# Altium integrated library Linear Technology Power Management LED Driver ICs.IntLib: 490 symbols (part 29 of 48)
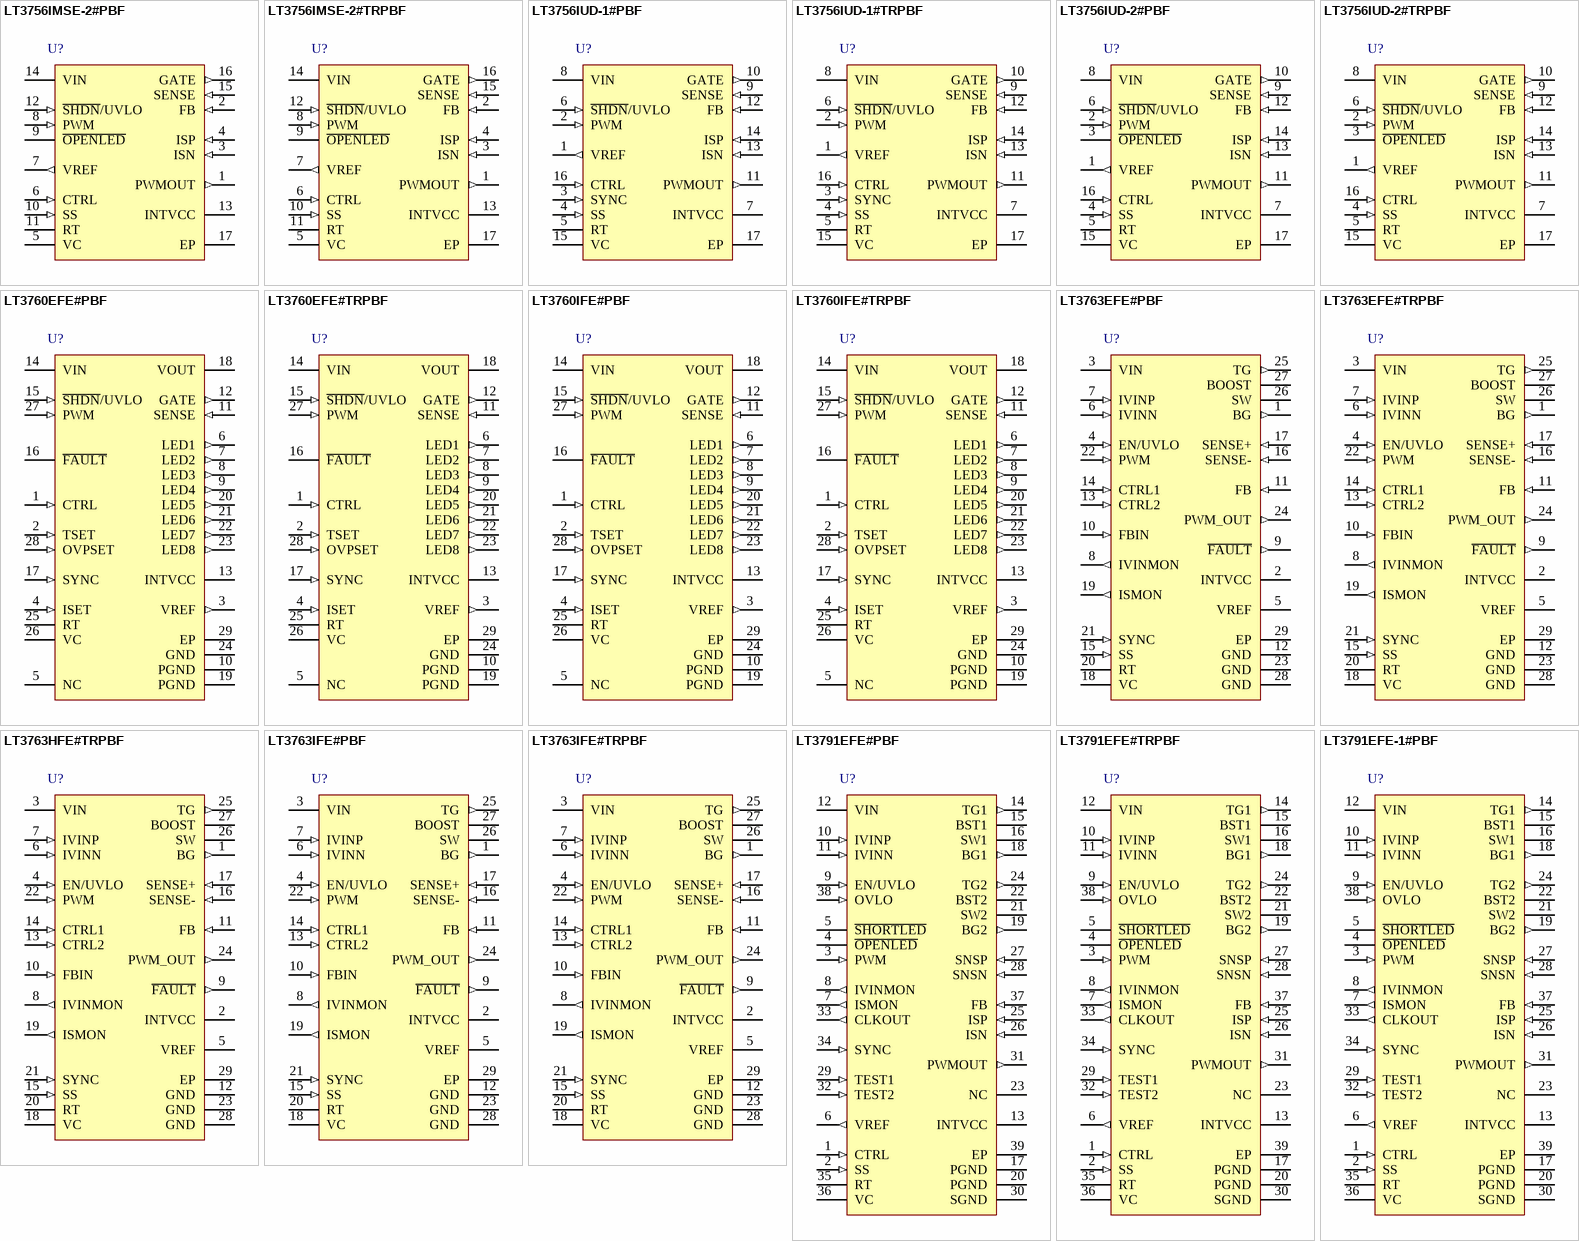
[diagram p48: symbols LT3756IMSE-2#PBF to LT3791EFE-1#PBF]

## LT3760EFE#PBF
designator U?
8-Channel x 100 mA LED Driver, 6 to 40 V Vin, 45 V Vout MAX, 28-pin SOP (FE-28-EPV-EB), -40 to 125 degC, Pb-Free; Manufacturer: Linear Technology; PartNumber: LT3760EFE#PBF; Topology: Boost, LED Driver; Vin Min(V): 6; DatasheetVersion: Rev. C; PackageVersion: Rev. J, 11/2012; PackageReference: FE-28; PackageDescription: 28-Pin Plastic TSSOP, Body 9.7 x 4.4 mm, Pitch 0.65 mm; Supplier 1: Digi-Key; Supplier Part Number 1: LT3760EFE#PBF-ND; Supplier 2: Farnell; Supplier Part Number 2: 1792369; Supplier 3: Newark; Supplier Part Number 3: 63R6863; RoHS: TRUE; Mounting Technology: Surface Mount; ComponentLink1Description: Manufacturer URL; ComponentLink1URL: http://www.linear.com/; ComponentLink2Description: Datasheet; ComponentLink2URL: http://cds.linear.com/docs/en/datasheet/3760fc.pdf; ComponentLink3Description: Package Specification; ComponentLink3URL: http://cds.linear.com/docs/en/packaging/05081663__J_FE28(EB).pdf
footprint LT-FE-28-EPV-EB_N (SOP, 28-Leads, Body 9.8x4.5mm, Pitch 0.65mm, Thermal Pad 4.75x2.74mm, IPC Medium Density)
footprint LT-FE-28-EPV-EB_L (SOP, 28-Leads, Body 9.8x4.5mm, Pitch 0.65mm, Thermal Pad 4.75x2.74mm, IPC High Density)
footprint LT-FE-28-EPV-EB_M (SOP, 28-Leads, Body 9.8x4.5mm, Pitch 0.65mm, Thermal Pad 4.75x2.74mm, IPC Low Density)
pins: 1 CTRL (in) "CTRL pin voltage below 1 V controls LED current. CTRL voltage can be set by a resistor divider from VIN , VREF or an external voltage source. LED current derating versus temperature is achievable if the voltage programmed at (See Datasheet)", 2 TSET (in) "Programs LT3760 junction temperature breakpoint past which LED current will begin to derate. Program using a resistor divider from VREF to GND.", 3 VREF (out) "1.485 V Reference Output Pin. This pin can supply up to 150 uA. Can be used to program CTRL, TSET and OVP SET pin voltages using resistor dividers to GND.", 4 ISET (in) "Resistor to GND Programs LED pin current.", 5 NC "No Connect. Okay to leave open or to connect to GND.", 6 LED1 (out) "LED Driver Output.", 7 LED2 (out) "LED Driver Output.", 8 LED3 (out) "LED Driver Output.", 9 LED4 (out) "LED Driver Output.", 10 PGND (power) "Power grounds for the IC and the converter.", 11 SENSE (in) "The Current Sense Input for the Control Loop. Connect this pin to the sense resistor in the source of the external power MOSFET.", 12 GATE (out) "Drives the gate of an N-channel MOSFET from 0 V to INTVCC .", 13 INTVCC (power) "A 7 V LDO supply generated from VIN and used to power the GATE driver and some control circuitry. Must be bypassed with a 4.7 uF capacitor to PGND.", 14 VIN (power) "Input Supply Pin. Must be locally bypassed with a 1 uF capacitor to PGND.", 15 ~{SHDN}/UVLO (in) "The S\H\D\N\/UVLO pin has an accurate 1.476 V threshold and can be used to program an under voltage lockout (UVLO) threshold for system input supply using a resistor divider from supply to GND.", 16 ~{FAULT} (oc) "Active low if any or all LED strings have an open fault. If fault(s) removed, F\A\U\L\T\ flag returns high. Fault status is only updated during PWM high state and latched during PWM low.", 17 SYNC (in) "Allows synchronization of boost converter switching frequency to an external clock. RT resistor should be programmed for f OSC 20% below SYNC frequency. If unused, connect to GND.", 18 VOUT (power) "Boosted Output Voltage of the Converter. Connect a capacitor from this pin to PGND. Connect the anode of each LED (string) to VOUT .", 19 PGND (power) "Power grounds for the IC and the converter.", 20 LED5 (out) "LED Driver Output.", 21 LED6 (out) "LED Driver Output.", 22 LED7 (out) "LED Driver Output.", 23 LED8 (out) "LED Driver Output.", 24 GND (power) "Signal Ground.", 25 RT "A resistor to GND programs switching frequency fOSC between 0.1 MHz and 1 MHz.", 26 VC "Output of Both Transconductance Error Amplifiers for the Converter Regulation Loop. The most commonly used gm error amplifier (LED) regulates VOUT to ensure no LED pin falls below 1V. The other gm error amplifier (OVP) is (See Datasheet)", 27 PWM (in) "Input Pin for PWM Dimming Control. Above 1.4 V allows converter switching and below 0.7 V disables switching. The PWM signal can be driven from 0 V to 6 V. If unused, connect to VREF.", 28 OVPSET (in) "Programs maximum allowed VOUT regulation level if all LEDs are open circuit. Program using a resistor divider from VREF to GND.", 29 EP (power) "Power grounds for the IC and the converter.It should be soldered to a continuous copper ground plane under the device to reduce die temperature and increase the power capability of the LT3760."

## LT3760EFE#TRPBF
designator U?
8-Channel x 100 mA LED Driver, 6 to 40 V Vin, 45 V Vout MAX, 28-pin SOP (FE-28-EPV-EB), -40 to 125 degC, Pb-Free, Tape and Reel; Manufacturer: Linear Technology; PartNumber: LT3760EFE#TRPBF; Topology: Boost, LED Driver; Vin Min(V): 6; DatasheetVersion: Rev. C; PackageVersion: Rev. J, 11/2012; PackageReference: FE-28; PackageDescription: 28-Pin Plastic TSSOP, Body 9.7 x 4.4 mm, Pitch 0.65 mm; Supplier 1: Digi-Key; Supplier Part Number 1: LT3760EFE#TRPBF-ND; Packing: Tape and Reel; RoHS: TRUE; Mounting Technology: Surface Mount; ComponentLink1Description: Manufacturer URL; ComponentLink1URL: http://www.linear.com/; ComponentLink2Description: Datasheet; ComponentLink2URL: http://cds.linear.com/docs/en/datasheet/3760fc.pdf; ComponentLink3Description: Package Specification; ComponentLink3URL: http://cds.linear.com/docs/en/packaging/05081663__J_FE28(EB).pdf
footprint LT-FE-28-EPV-EB_N (SOP, 28-Leads, Body 9.8x4.5mm, Pitch 0.65mm, Thermal Pad 4.75x2.74mm, IPC Medium Density)
footprint LT-FE-28-EPV-EB_L (SOP, 28-Leads, Body 9.8x4.5mm, Pitch 0.65mm, Thermal Pad 4.75x2.74mm, IPC High Density)
footprint LT-FE-28-EPV-EB_M (SOP, 28-Leads, Body 9.8x4.5mm, Pitch 0.65mm, Thermal Pad 4.75x2.74mm, IPC Low Density)
pins: 1 CTRL (in) "CTRL pin voltage below 1 V controls LED current. CTRL voltage can be set by a resistor divider from VIN , VREF or an external voltage source. LED current derating versus temperature is achievable if the voltage programmed at (See Datasheet)", 2 TSET (in) "Programs LT3760 junction temperature breakpoint past which LED current will begin to derate. Program using a resistor divider from VREF to GND.", 3 VREF (out) "1.485 V Reference Output Pin. This pin can supply up to 150 uA. Can be used to program CTRL, TSET and OVP SET pin voltages using resistor dividers to GND.", 4 ISET (in) "Resistor to GND Programs LED pin current.", 5 NC "No Connect. Okay to leave open or to connect to GND.", 6 LED1 (out) "LED Driver Output.", 7 LED2 (out) "LED Driver Output.", 8 LED3 (out) "LED Driver Output.", 9 LED4 (out) "LED Driver Output.", 10 PGND (power) "Power grounds for the IC and the converter.", 11 SENSE (in) "The Current Sense Input for the Control Loop. Connect this pin to the sense resistor in the source of the external power MOSFET.", 12 GATE (out) "Drives the gate of an N-channel MOSFET from 0 V to INTVCC .", 13 INTVCC (power) "A 7 V LDO supply generated from VIN and used to power the GATE driver and some control circuitry. Must be bypassed with a 4.7 uF capacitor to PGND.", 14 VIN (power) "Input Supply Pin. Must be locally bypassed with a 1 uF capacitor to PGND.", 15 ~{SHDN}/UVLO (in) "The S\H\D\N\/UVLO pin has an accurate 1.476 V threshold and can be used to program an under voltage lockout (UVLO) threshold for system input supply using a resistor divider from supply to GND.", 16 ~{FAULT} (oc) "Active low if any or all LED strings have an open fault. If fault(s) removed, F\A\U\L\T\ flag returns high. Fault status is only updated during PWM high state and latched during PWM low.", 17 SYNC (in) "Allows synchronization of boost converter switching frequency to an external clock. RT resistor should be programmed for f OSC 20% below SYNC frequency. If unused, connect to GND.", 18 VOUT (power) "Boosted Output Voltage of the Converter. Connect a capacitor from this pin to PGND. Connect the anode of each LED (string) to VOUT .", 19 PGND (power) "Power grounds for the IC and the converter.", 20 LED5 (out) "LED Driver Output.", 21 LED6 (out) "LED Driver Output.", 22 LED7 (out) "LED Driver Output.", 23 LED8 (out) "LED Driver Output.", 24 GND (power) "Signal Ground.", 25 RT "A resistor to GND programs switching frequency fOSC between 0.1 MHz and 1 MHz.", 26 VC "Output of Both Transconductance Error Amplifiers for the Converter Regulation Loop. The most commonly used gm error amplifier (LED) regulates VOUT to ensure no LED pin falls below 1V. The other gm error amplifier (OVP) is (See Datasheet)", 27 PWM (in) "Input Pin for PWM Dimming Control. Above 1.4 V allows converter switching and below 0.7 V disables switching. The PWM signal can be driven from 0 V to 6 V. If unused, connect to VREF.", 28 OVPSET (in) "Programs maximum allowed VOUT regulation level if all LEDs are open circuit. Program using a resistor divider from VREF to GND.", 29 EP (power) "Power grounds for the IC and the converter.It should be soldered to a continuous copper ground plane under the device to reduce die temperature and increase the power capability of the LT3760."

## LT3760IFE#PBF
designator U?
8-Channel x 100 mA LED Driver, 6 to 40 V Vin, 45 V Vout MAX, 28-pin SOP (FE-28-EPV-EB), -40 to 125 degC, Pb-Free; Manufacturer: Linear Technology; PartNumber: LT3760IFE#PBF; Topology: Boost, LED Driver; Vin Min(V): 6; DatasheetVersion: Rev. C; PackageVersion: Rev. J, 11/2012; PackageReference: FE-28; PackageDescription: 28-Pin Plastic TSSOP, Body 9.7 x 4.4 mm, Pitch 0.65 mm; Supplier 1: Digi-Key; Supplier Part Number 1: LT3760IFE#PBF-ND; Supplier 2: Newark; Supplier Part Number 2: 63R6865; RoHS: TRUE; Mounting Technology: Surface Mount; ComponentLink1Description: Manufacturer URL; ComponentLink1URL: http://www.linear.com/; ComponentLink2Description: Datasheet; ComponentLink2URL: http://cds.linear.com/docs/en/datasheet/3760fc.pdf; ComponentLink3Description: Package Specification; ComponentLink3URL: http://cds.linear.com/docs/en/packaging/05081663__J_FE28(EB).pdf
footprint LT-FE-28-EPV-EB_N (SOP, 28-Leads, Body 9.8x4.5mm, Pitch 0.65mm, Thermal Pad 4.75x2.74mm, IPC Medium Density)
footprint LT-FE-28-EPV-EB_L (SOP, 28-Leads, Body 9.8x4.5mm, Pitch 0.65mm, Thermal Pad 4.75x2.74mm, IPC High Density)
footprint LT-FE-28-EPV-EB_M (SOP, 28-Leads, Body 9.8x4.5mm, Pitch 0.65mm, Thermal Pad 4.75x2.74mm, IPC Low Density)
pins: 1 CTRL (in) "CTRL pin voltage below 1 V controls LED current. CTRL voltage can be set by a resistor divider from VIN , VREF or an external voltage source. LED current derating versus temperature is achievable if the voltage programmed at (See Datasheet)", 2 TSET (in) "Programs LT3760 junction temperature breakpoint past which LED current will begin to derate. Program using a resistor divider from VREF to GND.", 3 VREF (out) "1.485 V Reference Output Pin. This pin can supply up to 150 uA. Can be used to program CTRL, TSET and OVP SET pin voltages using resistor dividers to GND.", 4 ISET (in) "Resistor to GND Programs LED pin current.", 5 NC "No Connect. Okay to leave open or to connect to GND.", 6 LED1 (out) "LED Driver Output.", 7 LED2 (out) "LED Driver Output.", 8 LED3 (out) "LED Driver Output.", 9 LED4 (out) "LED Driver Output.", 10 PGND (power) "Power grounds for the IC and the converter.", 11 SENSE (in) "The Current Sense Input for the Control Loop. Connect this pin to the sense resistor in the source of the external power MOSFET.", 12 GATE (out) "Drives the gate of an N-channel MOSFET from 0 V to INTVCC .", 13 INTVCC (power) "A 7 V LDO supply generated from VIN and used to power the GATE driver and some control circuitry. Must be bypassed with a 4.7 uF capacitor to PGND.", 14 VIN (power) "Input Supply Pin. Must be locally bypassed with a 1 uF capacitor to PGND.", 15 ~{SHDN}/UVLO (in) "The S\H\D\N\/UVLO pin has an accurate 1.476 V threshold and can be used to program an under voltage lockout (UVLO) threshold for system input supply using a resistor divider from supply to GND.", 16 ~{FAULT} (oc) "Active low if any or all LED strings have an open fault. If fault(s) removed, F\A\U\L\T\ flag returns high. Fault status is only updated during PWM high state and latched during PWM low.", 17 SYNC (in) "Allows synchronization of boost converter switching frequency to an external clock. RT resistor should be programmed for f OSC 20% below SYNC frequency. If unused, connect to GND.", 18 VOUT (power) "Boosted Output Voltage of the Converter. Connect a capacitor from this pin to PGND. Connect the anode of each LED (string) to VOUT .", 19 PGND (power) "Power grounds for the IC and the converter.", 20 LED5 (out) "LED Driver Output.", 21 LED6 (out) "LED Driver Output.", 22 LED7 (out) "LED Driver Output.", 23 LED8 (out) "LED Driver Output.", 24 GND (power) "Signal Ground.", 25 RT "A resistor to GND programs switching frequency fOSC between 0.1 MHz and 1 MHz.", 26 VC "Output of Both Transconductance Error Amplifiers for the Converter Regulation Loop. The most commonly used gm error amplifier (LED) regulates VOUT to ensure no LED pin falls below 1V. The other gm error amplifier (OVP) is (See Datasheet)", 27 PWM (in) "Input Pin for PWM Dimming Control. Above 1.4 V allows converter switching and below 0.7 V disables switching. The PWM signal can be driven from 0 V to 6 V. If unused, connect to VREF.", 28 OVPSET (in) "Programs maximum allowed VOUT regulation level if all LEDs are open circuit. Program using a resistor divider from VREF to GND.", 29 EP (power) "Power grounds for the IC and the converter.It should be soldered to a continuous copper ground plane under the device to reduce die temperature and increase the power capability of the LT3760."

## LT3760IFE#TRPBF
designator U?
8-Channel x 100 mA LED Driver, 6 to 40 V Vin, 45 V Vout MAX, 28-pin SOP (FE-28-EPV-EB), -40 to 125 degC, Pb-Free, Tape and Reel; Manufacturer: Linear Technology; PartNumber: LT3760IFE#TRPBF; Topology: Boost, LED Driver; Vin Min(V): 6; DatasheetVersion: Rev. C; PackageVersion: Rev. J, 11/2012; PackageReference: FE-28; PackageDescription: 28-Pin Plastic TSSOP, Body 9.7 x 4.4 mm, Pitch 0.65 mm; Supplier 1: Digi-Key; Supplier Part Number 1: LT3760IFE#TRPBF-ND; Packing: Tape and Reel; RoHS: TRUE; Mounting Technology: Surface Mount; ComponentLink1Description: Manufacturer URL; ComponentLink1URL: http://www.linear.com/; ComponentLink2Description: Datasheet; ComponentLink2URL: http://cds.linear.com/docs/en/datasheet/3760fc.pdf; ComponentLink3Description: Package Specification; ComponentLink3URL: http://cds.linear.com/docs/en/packaging/05081663__J_FE28(EB).pdf
footprint LT-FE-28-EPV-EB_N (SOP, 28-Leads, Body 9.8x4.5mm, Pitch 0.65mm, Thermal Pad 4.75x2.74mm, IPC Medium Density)
footprint LT-FE-28-EPV-EB_L (SOP, 28-Leads, Body 9.8x4.5mm, Pitch 0.65mm, Thermal Pad 4.75x2.74mm, IPC High Density)
footprint LT-FE-28-EPV-EB_M (SOP, 28-Leads, Body 9.8x4.5mm, Pitch 0.65mm, Thermal Pad 4.75x2.74mm, IPC Low Density)
pins: 1 CTRL (in) "CTRL pin voltage below 1 V controls LED current. CTRL voltage can be set by a resistor divider from VIN , VREF or an external voltage source. LED current derating versus temperature is achievable if the voltage programmed at (See Datasheet)", 2 TSET (in) "Programs LT3760 junction temperature breakpoint past which LED current will begin to derate. Program using a resistor divider from VREF to GND.", 3 VREF (out) "1.485 V Reference Output Pin. This pin can supply up to 150 uA. Can be used to program CTRL, TSET and OVP SET pin voltages using resistor dividers to GND.", 4 ISET (in) "Resistor to GND Programs LED pin current.", 5 NC "No Connect. Okay to leave open or to connect to GND.", 6 LED1 (out) "LED Driver Output.", 7 LED2 (out) "LED Driver Output.", 8 LED3 (out) "LED Driver Output.", 9 LED4 (out) "LED Driver Output.", 10 PGND (power) "Power grounds for the IC and the converter.", 11 SENSE (in) "The Current Sense Input for the Control Loop. Connect this pin to the sense resistor in the source of the external power MOSFET.", 12 GATE (out) "Drives the gate of an N-channel MOSFET from 0 V to INTVCC .", 13 INTVCC (power) "A 7 V LDO supply generated from VIN and used to power the GATE driver and some control circuitry. Must be bypassed with a 4.7 uF capacitor to PGND.", 14 VIN (power) "Input Supply Pin. Must be locally bypassed with a 1 uF capacitor to PGND.", 15 ~{SHDN}/UVLO (in) "The S\H\D\N\/UVLO pin has an accurate 1.476 V threshold and can be used to program an under voltage lockout (UVLO) threshold for system input supply using a resistor divider from supply to GND.", 16 ~{FAULT} (oc) "Active low if any or all LED strings have an open fault. If fault(s) removed, F\A\U\L\T\ flag returns high. Fault status is only updated during PWM high state and latched during PWM low.", 17 SYNC (in) "Allows synchronization of boost converter switching frequency to an external clock. RT resistor should be programmed for f OSC 20% below SYNC frequency. If unused, connect to GND.", 18 VOUT (power) "Boosted Output Voltage of the Converter. Connect a capacitor from this pin to PGND. Connect the anode of each LED (string) to VOUT .", 19 PGND (power) "Power grounds for the IC and the converter.", 20 LED5 (out) "LED Driver Output.", 21 LED6 (out) "LED Driver Output.", 22 LED7 (out) "LED Driver Output.", 23 LED8 (out) "LED Driver Output.", 24 GND (power) "Signal Ground.", 25 RT "A resistor to GND programs switching frequency fOSC between 0.1 MHz and 1 MHz.", 26 VC "Output of Both Transconductance Error Amplifiers for the Converter Regulation Loop. The most commonly used gm error amplifier (LED) regulates VOUT to ensure no LED pin falls below 1V. The other gm error amplifier (OVP) is (See Datasheet)", 27 PWM (in) "Input Pin for PWM Dimming Control. Above 1.4 V allows converter switching and below 0.7 V disables switching. The PWM signal can be driven from 0 V to 6 V. If unused, connect to VREF.", 28 OVPSET (in) "Programs maximum allowed VOUT regulation level if all LEDs are open circuit. Program using a resistor divider from VREF to GND.", 29 EP (power) "Power grounds for the IC and the converter.It should be soldered to a continuous copper ground plane under the device to reduce die temperature and increase the power capability of the LT3760."

## LT3763EFE#PBF
designator U?
60 V High Current Step-Down LED Driver Controller, 6 to 60 V Vin, 55 V Vout MAX, 28-pin SOP (FE-28-EPV-EB), -40 to 125 degC, Pb-Free; Manufacturer: Linear Technology; PartNumber: LT3763EFE#PBF; Topology: Buck, LED Driver; Vin Min(V): 6; DatasheetVersion: Rev. A; PackageVersion: Rev. J, 11/2012; PackageReference: FE-28; PackageDescription: 28-Pin Plastic TSSOP, Body 9.7 x 4.4 mm, Pitch 0.65 mm; Supplier 1: Digi-Key; Supplier Part Number 1: LT3763EFE#PBF-ND; Supplier 2: Farnell; Supplier Part Number 2: 2293099; Supplier 3: Newark; Supplier Part Number 3: 45W8478; RoHS: TRUE; Mounting Technology: Surface Mount; ComponentLink1Description: Manufacturer URL; ComponentLink1URL: http://www.linear.com/; ComponentLink2Description: Datasheet; ComponentLink2URL: http://cds.linear.com/docs/en/datasheet/3763fa.pdf; ComponentLink3Description: Package Specification; ComponentLink3URL: http://cds.linear.com/docs/en/packaging/05081663__J_FE28(EB).pdf
footprint LT-FE-28-EPV-EB_N (SOP, 28-Leads, Body 9.8x4.5mm, Pitch 0.65mm, Thermal Pad 4.75x2.74mm, IPC Medium Density)
footprint LT-FE-28-EPV-EB_L (SOP, 28-Leads, Body 9.8x4.5mm, Pitch 0.65mm, Thermal Pad 4.75x2.74mm, IPC High Density)
footprint LT-FE-28-EPV-EB_M (SOP, 28-Leads, Body 9.8x4.5mm, Pitch 0.65mm, Thermal Pad 4.75x2.74mm, IPC Low Density)
pins: 1 BG (out) "BG is the bottom FET gate drive signal that controls the state of the external low side power FET. The driver pull-up impedance is 2.2ohm, and pull-down impedance is 1ohm. Do not force any voltage on this pin.", 2 INTVCC (power) "The INTVCC pin provides a regulated 5V output for charging the BOOST capacitor. INTVCC also provides the power for the digital and switching subcircuits. Do not force any voltage on this pin. Bypass with at least a 22uF (See Datasheet)", 3 VIN (power) "Input Supply Pin. Must be locally bypassed with at least a 4.7uF low ESR capacitor to ground as close as possible to the exposed pad of the package.", 4 EN/UVLO (in) "Enable Pin. The EN/UVLO pin acts as an enable pin and turns on the internal current bias core and sub-regulators at 1.705V and turns off at 1.52V. The pin does not have any pull-up or pull-down, requiring a voltage bias for (See Datasheet)", 5 VREF (power) "Buffered 2V Reference Capable of 0.5mA Drive. Bypass with at least 1uF capacitor to ground.", 6 IVINN (in) "IVINN is the inverting input of the input current sense amplifier. This pin connects to the drain of the high side N-channel power FET and the input current sense resistor.", 7 IVINP (in) "IVINP is the noninverting input of the input current sense amplifier. This pin connects to the input supply VIN and the input current sense resistor.", 8 IVINMON (out) "IVINMON is the buffered output of the input current sense amplifier. This pin enables monitoring of the averaged supply current with an output voltage of 20 • (VIVINP - VIVINN). The capacitive loading to this pin should b(See Datasheet)", 9 ~{FAULT} (out) "Output Voltage Fault Detection Pin for Shorted or Open LEDs. Internal comparators pull down this pin when the FB pin voltage is lower than 0.25V or higher than 1.16V and when the inductor current is less than ten percent of (See Datasheet)", 10 FBIN (in) "The FBIN pin enables peak power tracking for solar powered chargers and other similar applications by controlling the output current of the system based on the input voltage. This pin should be tied to VREF if this feature (See Datasheet)", 11 FB (in) "The feedback pin is used for voltage regulation and overvoltage protection. The feedback voltage is regulated to 1.206V. When the feedback voltage exceeds 1.515V, the overvoltage lockout prevents switching.", 12 GND (power) "Ground. The exposed pad must be soldered to the PCB.", 13 CTRL2 (in) "Thermal Control Input to Reduce the Regulated Output Current.", 14 CTRL1 (in) "The CTRL1 pin sets the regulated output current. The maximum control voltage is 1.5V. Above 1.5V, there is no change in the regulated current.", 15 SS (in) "The Soft-Start Pin. Place an external capacitor to ground to limit the regulated current during start-up conditions. The soft-start pin has an 11uA charging current. When the voltage at this pin is lower than voltages at (See Datasheet)", 16 SENSE- (in) "SENSE- is the noninverting input of the error amplifier for the current regulation loop. The reference current, based on CTRL1, CTRL2, SS or FBIN determines the regulated voltage between SENSE+ and SENSE-.", 17 SENSE+ (in) "SENSE+ is the inverting input of the error amplifier for the current regulation loop. This pin is connected to an external current sense resistor. The voltage drop between SENSE+ and SENSE- is measured against the voltage (See Datasheet)", 18 VC "A resistor and capacitor connected in series to the VC pin provide the necessary compensation for the stability of the average current loop. Typical values are 5k to 60k for the resistor and 2.2nF to 10nF for the capacitor", 19 ISMON (out) "ISMON is the buffered output of the output current sense amplifier. This voltage output enables monitoring the averaged output current of the LED driver with a voltage of 20 • (VSENSE+ - VSENSE-). The capacitive loading t(See Datasheet)", 20 RT "A resistor from the RT pin to ground sets the switching frequency between 200kHz and 1MHz. When using the SYNC function, set the frequency to be at least 20% lower than the SYNC pulse frequency. This pin is current-limited (See Datasheet)", 21 SYNC (in) "Frequency Synchronization Pin. This pin allows the switching frequency to be synchronized to an external clock. The RT resistor should be chosen to operate the internal clock at 20% slower than the SYNC pulse frequency. This (See Datasheet)", 22 PWM (in) "The input pin for PWM dimming of LEDs. When low, all switching is terminated and the PWM_OUT pin is low. This pin should be connected to INTVCC when not in use.", 23 GND (power) "Ground. The exposed pad must be soldered to the PCB.", 24 PWM_OUT (out) "This pin can drive an external FET for PWM dimming of LEDs. The pull-up and pull-down impedances of the driver are 2.2ohm and 0.9ohm, respectively. Do not force any voltage on this pin.", 25 TG (out) "TG is the top FET gate drive pin that controls the state of the external high side power FET. The driver pull-up impedance is 2.2ohm, and pull-down impedance is 1.3ohm. Do not force any voltage on this pin.", 26 SW "The SW pin is used internally as the lower rail for the floating top FET gate driver. Externally, this node connects the two power FETs and the inductor.", 27 BOOST "The BOOST pin provides a floating 5V regulated supply for the top FET gate driver. An external schottky diode is required from the INTVCC pin to the BOOST pin to charge the BOOST capacitor when the SW pin is near ground.", 28 GND (power) "Ground. The exposed pad must be soldered to the PCB.", 29 EP (power) "Ground. The exposed pad must be soldered to the PCB."

## LT3763EFE#TRPBF
designator U?
60 V High Current Step-Down LED Driver Controller, 6 to 60 V Vin, 55 V Vout MAX, 28-pin SOP (FE-28-EPV-EB), -40 to 125 degC, Pb-Free, Tape and Reel; Manufacturer: Linear Technology; PartNumber: LT3763EFE#TRPBF; Topology: Buck, LED Driver; Vin Min(V): 6; DatasheetVersion: Rev. A; PackageVersion: Rev. J, 11/2012; PackageReference: FE-28; PackageDescription: 28-Pin Plastic TSSOP, Body 9.7 x 4.4 mm, Pitch 0.65 mm; Supplier 1: Digi-Key; Supplier Part Number 1: LT3763EFE#TRPBF-ND; Supplier 2: Newark; Supplier Part Number 2: 45W8479; Packing: Tape and Reel; RoHS: TRUE; Mounting Technology: Surface Mount; ComponentLink1Description: Manufacturer URL; ComponentLink1URL: http://www.linear.com/; ComponentLink2Description: Datasheet; ComponentLink2URL: http://cds.linear.com/docs/en/datasheet/3763fa.pdf; ComponentLink3Description: Package Specification; ComponentLink3URL: http://cds.linear.com/docs/en/packaging/05081663__J_FE28(EB).pdf
footprint LT-FE-28-EPV-EB_N (SOP, 28-Leads, Body 9.8x4.5mm, Pitch 0.65mm, Thermal Pad 4.75x2.74mm, IPC Medium Density)
footprint LT-FE-28-EPV-EB_L (SOP, 28-Leads, Body 9.8x4.5mm, Pitch 0.65mm, Thermal Pad 4.75x2.74mm, IPC High Density)
footprint LT-FE-28-EPV-EB_M (SOP, 28-Leads, Body 9.8x4.5mm, Pitch 0.65mm, Thermal Pad 4.75x2.74mm, IPC Low Density)
pins: 1 BG (out) "BG is the bottom FET gate drive signal that controls the state of the external low side power FET. The driver pull-up impedance is 2.2ohm, and pull-down impedance is 1ohm. Do not force any voltage on this pin.", 2 INTVCC (power) "The INTVCC pin provides a regulated 5V output for charging the BOOST capacitor. INTVCC also provides the power for the digital and switching subcircuits. Do not force any voltage on this pin. Bypass with at least a 22uF (See Datasheet)", 3 VIN (power) "Input Supply Pin. Must be locally bypassed with at least a 4.7uF low ESR capacitor to ground as close as possible to the exposed pad of the package.", 4 EN/UVLO (in) "Enable Pin. The EN/UVLO pin acts as an enable pin and turns on the internal current bias core and sub-regulators at 1.705V and turns off at 1.52V. The pin does not have any pull-up or pull-down, requiring a voltage bias for (See Datasheet)", 5 VREF (power) "Buffered 2V Reference Capable of 0.5mA Drive. Bypass with at least 1uF capacitor to ground.", 6 IVINN (in) "IVINN is the inverting input of the input current sense amplifier. This pin connects to the drain of the high side N-channel power FET and the input current sense resistor.", 7 IVINP (in) "IVINP is the noninverting input of the input current sense amplifier. This pin connects to the input supply VIN and the input current sense resistor.", 8 IVINMON (out) "IVINMON is the buffered output of the input current sense amplifier. This pin enables monitoring of the averaged supply current with an output voltage of 20 • (VIVINP - VIVINN). The capacitive loading to this pin should b(See Datasheet)", 9 ~{FAULT} (out) "Output Voltage Fault Detection Pin for Shorted or Open LEDs. Internal comparators pull down this pin when the FB pin voltage is lower than 0.25V or higher than 1.16V and when the inductor current is less than ten percent of (See Datasheet)", 10 FBIN (in) "The FBIN pin enables peak power tracking for solar powered chargers and other similar applications by controlling the output current of the system based on the input voltage. This pin should be tied to VREF if this feature (See Datasheet)", 11 FB (in) "The feedback pin is used for voltage regulation and overvoltage protection. The feedback voltage is regulated to 1.206V. When the feedback voltage exceeds 1.515V, the overvoltage lockout prevents switching.", 12 GND (power) "Ground. The exposed pad must be soldered to the PCB.", 13 CTRL2 (in) "Thermal Control Input to Reduce the Regulated Output Current.", 14 CTRL1 (in) "The CTRL1 pin sets the regulated output current. The maximum control voltage is 1.5V. Above 1.5V, there is no change in the regulated current.", 15 SS (in) "The Soft-Start Pin. Place an external capacitor to ground to limit the regulated current during start-up conditions. The soft-start pin has an 11uA charging current. When the voltage at this pin is lower than voltages at (See Datasheet)", 16 SENSE- (in) "SENSE- is the noninverting input of the error amplifier for the current regulation loop. The reference current, based on CTRL1, CTRL2, SS or FBIN determines the regulated voltage between SENSE+ and SENSE-.", 17 SENSE+ (in) "SENSE+ is the inverting input of the error amplifier for the current regulation loop. This pin is connected to an external current sense resistor. The voltage drop between SENSE+ and SENSE- is measured against the voltage (See Datasheet)", 18 VC "A resistor and capacitor connected in series to the VC pin provide the necessary compensation for the stability of the average current loop. Typical values are 5k to 60k for the resistor and 2.2nF to 10nF for the capacitor", 19 ISMON (out) "ISMON is the buffered output of the output current sense amplifier. This voltage output enables monitoring the averaged output current of the LED driver with a voltage of 20 • (VSENSE+ - VSENSE-). The capacitive loading t(See Datasheet)", 20 RT "A resistor from the RT pin to ground sets the switching frequency between 200kHz and 1MHz. When using the SYNC function, set the frequency to be at least 20% lower than the SYNC pulse frequency. This pin is current-limited (See Datasheet)", 21 SYNC (in) "Frequency Synchronization Pin. This pin allows the switching frequency to be synchronized to an external clock. The RT resistor should be chosen to operate the internal clock at 20% slower than the SYNC pulse frequency. This (See Datasheet)", 22 PWM (in) "The input pin for PWM dimming of LEDs. When low, all switching is terminated and the PWM_OUT pin is low. This pin should be connected to INTVCC when not in use.", 23 GND (power) "Ground. The exposed pad must be soldered to the PCB.", 24 PWM_OUT (out) "This pin can drive an external FET for PWM dimming of LEDs. The pull-up and pull-down impedances of the driver are 2.2ohm and 0.9ohm, respectively. Do not force any voltage on this pin.", 25 TG (out) "TG is the top FET gate drive pin that controls the state of the external high side power FET. The driver pull-up impedance is 2.2ohm, and pull-down impedance is 1.3ohm. Do not force any voltage on this pin.", 26 SW "The SW pin is used internally as the lower rail for the floating top FET gate driver. Externally, this node connects the two power FETs and the inductor.", 27 BOOST "The BOOST pin provides a floating 5V regulated supply for the top FET gate driver. An external schottky diode is required from the INTVCC pin to the BOOST pin to charge the BOOST capacitor when the SW pin is near ground.", 28 GND (power) "Ground. The exposed pad must be soldered to the PCB.", 29 EP (power) "Ground. The exposed pad must be soldered to the PCB."

## LT3763HFE#TRPBF
designator U?
60 V High Current Step-Down LED Driver Controller, 6 to 60 V Vin, 55 V Vout MAX, 28-pin SOP (FE-28-EPV-EB), -40 to 150 degC, Pb-Free, Tape and Reel; Manufacturer: Linear Technology; PartNumber: LT3763HFE#TRPBF; Topology: Buck, LED Driver; Vin Min(V): 6; DatasheetVersion: Rev. A; PackageVersion: Rev. J, 11/2012; PackageReference: FE-28; PackageDescription: 28-Pin Plastic TSSOP, Body 9.7 x 4.4 mm, Pitch 0.65 mm; Supplier 1: Digi-Key; Supplier Part Number 1: LT3763HFE#TRPBF-ND; Supplier 2: Newark; Supplier Part Number 2: 45W8481; Packing: Tape and Reel; RoHS: TRUE; Mounting Technology: Surface Mount; ComponentLink1Description: Manufacturer URL; ComponentLink1URL: http://www.linear.com/; ComponentLink2Description: Datasheet; ComponentLink2URL: http://cds.linear.com/docs/en/datasheet/3763fa.pdf; ComponentLink3Description: Package Specification; ComponentLink3URL: http://cds.linear.com/docs/en/packaging/05081663__J_FE28(EB).pdf
footprint LT-FE-28-EPV-EB_N (SOP, 28-Leads, Body 9.8x4.5mm, Pitch 0.65mm, Thermal Pad 4.75x2.74mm, IPC Medium Density)
footprint LT-FE-28-EPV-EB_L (SOP, 28-Leads, Body 9.8x4.5mm, Pitch 0.65mm, Thermal Pad 4.75x2.74mm, IPC High Density)
footprint LT-FE-28-EPV-EB_M (SOP, 28-Leads, Body 9.8x4.5mm, Pitch 0.65mm, Thermal Pad 4.75x2.74mm, IPC Low Density)
pins: 1 BG (out) "BG is the bottom FET gate drive signal that controls the state of the external low side power FET. The driver pull-up impedance is 2.2ohm, and pull-down impedance is 1ohm. Do not force any voltage on this pin.", 2 INTVCC (power) "The INTVCC pin provides a regulated 5V output for charging the BOOST capacitor. INTVCC also provides the power for the digital and switching subcircuits. Do not force any voltage on this pin. Bypass with at least a 22uF (See Datasheet)", 3 VIN (power) "Input Supply Pin. Must be locally bypassed with at least a 4.7uF low ESR capacitor to ground as close as possible to the exposed pad of the package.", 4 EN/UVLO (in) "Enable Pin. The EN/UVLO pin acts as an enable pin and turns on the internal current bias core and sub-regulators at 1.705V and turns off at 1.52V. The pin does not have any pull-up or pull-down, requiring a voltage bias for (See Datasheet)", 5 VREF (power) "Buffered 2V Reference Capable of 0.5mA Drive. Bypass with at least 1uF capacitor to ground.", 6 IVINN (in) "IVINN is the inverting input of the input current sense amplifier. This pin connects to the drain of the high side N-channel power FET and the input current sense resistor.", 7 IVINP (in) "IVINP is the noninverting input of the input current sense amplifier. This pin connects to the input supply VIN and the input current sense resistor.", 8 IVINMON (out) "IVINMON is the buffered output of the input current sense amplifier. This pin enables monitoring of the averaged supply current with an output voltage of 20 • (VIVINP - VIVINN). The capacitive loading to this pin should b(See Datasheet)", 9 ~{FAULT} (out) "Output Voltage Fault Detection Pin for Shorted or Open LEDs. Internal comparators pull down this pin when the FB pin voltage is lower than 0.25V or higher than 1.16V and when the inductor current is less than ten percent of (See Datasheet)", 10 FBIN (in) "The FBIN pin enables peak power tracking for solar powered chargers and other similar applications by controlling the output current of the system based on the input voltage. This pin should be tied to VREF if this feature (See Datasheet)", 11 FB (in) "The feedback pin is used for voltage regulation and overvoltage protection. The feedback voltage is regulated to 1.206V. When the feedback voltage exceeds 1.515V, the overvoltage lockout prevents switching.", 12 GND (power) "Ground. The exposed pad must be soldered to the PCB.", 13 CTRL2 (in) "Thermal Control Input to Reduce the Regulated Output Current.", 14 CTRL1 (in) "The CTRL1 pin sets the regulated output current. The maximum control voltage is 1.5V. Above 1.5V, there is no change in the regulated current.", 15 SS (in) "The Soft-Start Pin. Place an external capacitor to ground to limit the regulated current during start-up conditions. The soft-start pin has an 11uA charging current. When the voltage at this pin is lower than voltages at (See Datasheet)", 16 SENSE- (in) "SENSE- is the noninverting input of the error amplifier for the current regulation loop. The reference current, based on CTRL1, CTRL2, SS or FBIN determines the regulated voltage between SENSE+ and SENSE-.", 17 SENSE+ (in) "SENSE+ is the inverting input of the error amplifier for the current regulation loop. This pin is connected to an external current sense resistor. The voltage drop between SENSE+ and SENSE- is measured against the voltage (See Datasheet)", 18 VC "A resistor and capacitor connected in series to the VC pin provide the necessary compensation for the stability of the average current loop. Typical values are 5k to 60k for the resistor and 2.2nF to 10nF for the capacitor", 19 ISMON (out) "ISMON is the buffered output of the output current sense amplifier. This voltage output enables monitoring the averaged output current of the LED driver with a voltage of 20 • (VSENSE+ - VSENSE-). The capacitive loading t(See Datasheet)", 20 RT "A resistor from the RT pin to ground sets the switching frequency between 200kHz and 1MHz. When using the SYNC function, set the frequency to be at least 20% lower than the SYNC pulse frequency. This pin is current-limited (See Datasheet)", 21 SYNC (in) "Frequency Synchronization Pin. This pin allows the switching frequency to be synchronized to an external clock. The RT resistor should be chosen to operate the internal clock at 20% slower than the SYNC pulse frequency. This (See Datasheet)", 22 PWM (in) "The input pin for PWM dimming of LEDs. When low, all switching is terminated and the PWM_OUT pin is low. This pin should be connected to INTVCC when not in use.", 23 GND (power) "Ground. The exposed pad must be soldered to the PCB.", 24 PWM_OUT (out) "This pin can drive an external FET for PWM dimming of LEDs. The pull-up and pull-down impedances of the driver are 2.2ohm and 0.9ohm, respectively. Do not force any voltage on this pin.", 25 TG (out) "TG is the top FET gate drive pin that controls the state of the external high side power FET. The driver pull-up impedance is 2.2ohm, and pull-down impedance is 1.3ohm. Do not force any voltage on this pin.", 26 SW "The SW pin is used internally as the lower rail for the floating top FET gate driver. Externally, this node connects the two power FETs and the inductor.", 27 BOOST "The BOOST pin provides a floating 5V regulated supply for the top FET gate driver. An external schottky diode is required from the INTVCC pin to the BOOST pin to charge the BOOST capacitor when the SW pin is near ground.", 28 GND (power) "Ground. The exposed pad must be soldered to the PCB.", 29 EP (power) "Ground. The exposed pad must be soldered to the PCB."

## LT3763IFE#PBF
designator U?
60 V High Current Step-Down LED Driver Controller, 6 to 60 V Vin, 55 V Vout MAX, 28-pin SOP (FE-28-EPV-EB), -40 to 125 degC, Pb-Free; Manufacturer: Linear Technology; PartNumber: LT3763IFE#PBF; Topology: Buck, LED Driver; Vin Min(V): 6; DatasheetVersion: Rev. A; PackageVersion: Rev. J, 11/2012; PackageReference: FE-28; PackageDescription: 28-Pin Plastic TSSOP, Body 9.7 x 4.4 mm, Pitch 0.65 mm; Supplier 1: Digi-Key; Supplier Part Number 1: LT3763IFE#PBF-ND; Supplier 2: Farnell; Supplier Part Number 2: 2293101; Supplier 3: Newark; Supplier Part Number 3: 45W8482; RoHS: TRUE; Mounting Technology: Surface Mount; ComponentLink1Description: Manufacturer URL; ComponentLink1URL: http://www.linear.com/; ComponentLink2Description: Datasheet; ComponentLink2URL: http://cds.linear.com/docs/en/datasheet/3763fa.pdf; ComponentLink3Description: Package Specification; ComponentLink3URL: http://cds.linear.com/docs/en/packaging/05081663__J_FE28(EB).pdf
footprint LT-FE-28-EPV-EB_N (SOP, 28-Leads, Body 9.8x4.5mm, Pitch 0.65mm, Thermal Pad 4.75x2.74mm, IPC Medium Density)
footprint LT-FE-28-EPV-EB_L (SOP, 28-Leads, Body 9.8x4.5mm, Pitch 0.65mm, Thermal Pad 4.75x2.74mm, IPC High Density)
footprint LT-FE-28-EPV-EB_M (SOP, 28-Leads, Body 9.8x4.5mm, Pitch 0.65mm, Thermal Pad 4.75x2.74mm, IPC Low Density)
pins: 1 BG (out) "BG is the bottom FET gate drive signal that controls the state of the external low side power FET. The driver pull-up impedance is 2.2ohm, and pull-down impedance is 1ohm. Do not force any voltage on this pin.", 2 INTVCC (power) "The INTVCC pin provides a regulated 5V output for charging the BOOST capacitor. INTVCC also provides the power for the digital and switching subcircuits. Do not force any voltage on this pin. Bypass with at least a 22uF (See Datasheet)", 3 VIN (power) "Input Supply Pin. Must be locally bypassed with at least a 4.7uF low ESR capacitor to ground as close as possible to the exposed pad of the package.", 4 EN/UVLO (in) "Enable Pin. The EN/UVLO pin acts as an enable pin and turns on the internal current bias core and sub-regulators at 1.705V and turns off at 1.52V. The pin does not have any pull-up or pull-down, requiring a voltage bias for (See Datasheet)", 5 VREF (power) "Buffered 2V Reference Capable of 0.5mA Drive. Bypass with at least 1uF capacitor to ground.", 6 IVINN (in) "IVINN is the inverting input of the input current sense amplifier. This pin connects to the drain of the high side N-channel power FET and the input current sense resistor.", 7 IVINP (in) "IVINP is the noninverting input of the input current sense amplifier. This pin connects to the input supply VIN and the input current sense resistor.", 8 IVINMON (out) "IVINMON is the buffered output of the input current sense amplifier. This pin enables monitoring of the averaged supply current with an output voltage of 20 • (VIVINP - VIVINN). The capacitive loading to this pin should b(See Datasheet)", 9 ~{FAULT} (out) "Output Voltage Fault Detection Pin for Shorted or Open LEDs. Internal comparators pull down this pin when the FB pin voltage is lower than 0.25V or higher than 1.16V and when the inductor current is less than ten percent of (See Datasheet)", 10 FBIN (in) "The FBIN pin enables peak power tracking for solar powered chargers and other similar applications by controlling the output current of the system based on the input voltage. This pin should be tied to VREF if this feature (See Datasheet)", 11 FB (in) "The feedback pin is used for voltage regulation and overvoltage protection. The feedback voltage is regulated to 1.206V. When the feedback voltage exceeds 1.515V, the overvoltage lockout prevents switching.", 12 GND (power) "Ground. The exposed pad must be soldered to the PCB.", 13 CTRL2 (in) "Thermal Control Input to Reduce the Regulated Output Current.", 14 CTRL1 (in) "The CTRL1 pin sets the regulated output current. The maximum control voltage is 1.5V. Above 1.5V, there is no change in the regulated current.", 15 SS (in) "The Soft-Start Pin. Place an external capacitor to ground to limit the regulated current during start-up conditions. The soft-start pin has an 11uA charging current. When the voltage at this pin is lower than voltages at (See Datasheet)", 16 SENSE- (in) "SENSE- is the noninverting input of the error amplifier for the current regulation loop. The reference current, based on CTRL1, CTRL2, SS or FBIN determines the regulated voltage between SENSE+ and SENSE-.", 17 SENSE+ (in) "SENSE+ is the inverting input of the error amplifier for the current regulation loop. This pin is connected to an external current sense resistor. The voltage drop between SENSE+ and SENSE- is measured against the voltage (See Datasheet)", 18 VC "A resistor and capacitor connected in series to the VC pin provide the necessary compensation for the stability of the average current loop. Typical values are 5k to 60k for the resistor and 2.2nF to 10nF for the capacitor", 19 ISMON (out) "ISMON is the buffered output of the output current sense amplifier. This voltage output enables monitoring the averaged output current of the LED driver with a voltage of 20 • (VSENSE+ - VSENSE-). The capacitive loading t(See Datasheet)", 20 RT "A resistor from the RT pin to ground sets the switching frequency between 200kHz and 1MHz. When using the SYNC function, set the frequency to be at least 20% lower than the SYNC pulse frequency. This pin is current-limited (See Datasheet)", 21 SYNC (in) "Frequency Synchronization Pin. This pin allows the switching frequency to be synchronized to an external clock. The RT resistor should be chosen to operate the internal clock at 20% slower than the SYNC pulse frequency. This (See Datasheet)", 22 PWM (in) "The input pin for PWM dimming of LEDs. When low, all switching is terminated and the PWM_OUT pin is low. This pin should be connected to INTVCC when not in use.", 23 GND (power) "Ground. The exposed pad must be soldered to the PCB.", 24 PWM_OUT (out) "This pin can drive an external FET for PWM dimming of LEDs. The pull-up and pull-down impedances of the driver are 2.2ohm and 0.9ohm, respectively. Do not force any voltage on this pin.", 25 TG (out) "TG is the top FET gate drive pin that controls the state of the external high side power FET. The driver pull-up impedance is 2.2ohm, and pull-down impedance is 1.3ohm. Do not force any voltage on this pin.", 26 SW "The SW pin is used internally as the lower rail for the floating top FET gate driver. Externally, this node connects the two power FETs and the inductor.", 27 BOOST "The BOOST pin provides a floating 5V regulated supply for the top FET gate driver. An external schottky diode is required from the INTVCC pin to the BOOST pin to charge the BOOST capacitor when the SW pin is near ground.", 28 GND (power) "Ground. The exposed pad must be soldered to the PCB.", 29 EP (power) "Ground. The exposed pad must be soldered to the PCB."